# EAGLE library part MAX30102 (library esp32-component-libraries_v161)
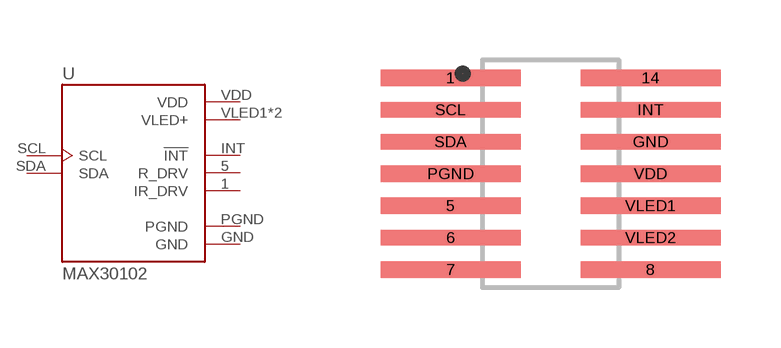
[diagram p4: symbol with the pads of PSON80P330X560X165-14N; footprint PSON80P330X560X165-14N]

Designator prefix -

## MAX30102  [PSON80P330X560X165-14N]
1  IR_DRV  out
5  R_DRV  out
GND  GND  pwr
INT  !INT  out
PGND  PGND  pwr
SCL  SCL  in
SDA  SDA
VDD  VDD  pwr
VLED1  VLED+  pwr
VLED2  VLED+  pwr

## Footprint PSON80P330X560X165-14N (pad centres in mm)
smd 3.5 x 0.4: 1 -2.5,2.4; 5 -2.5,-0.8; 6 -2.5,-1.6; 7 -2.5,-2.4; 8 2.5,-2.4; 14 2.5,2.4; GND 2.5,0.8; INT 2.5,1.6; PGND -2.5,0; SCL -2.5,1.6; SDA -2.5,0.8; VDD 2.5,0; VLED1 2.5,-0.8; VLED2 2.5,-1.6